# Altium footprint library STM32_F407.PcbLib: 28 footprints (part 1 of 2)
Each footprint in its own frame and in the unit in brackets; x right, y up, seen from the top. Pads: shape width x height; smd on the part's side, far side on the other; paste and mask are expansions set on the pad; w line width, h text height; cw(c..) or ccw(c..) is an arc to the next point about the centre after c.
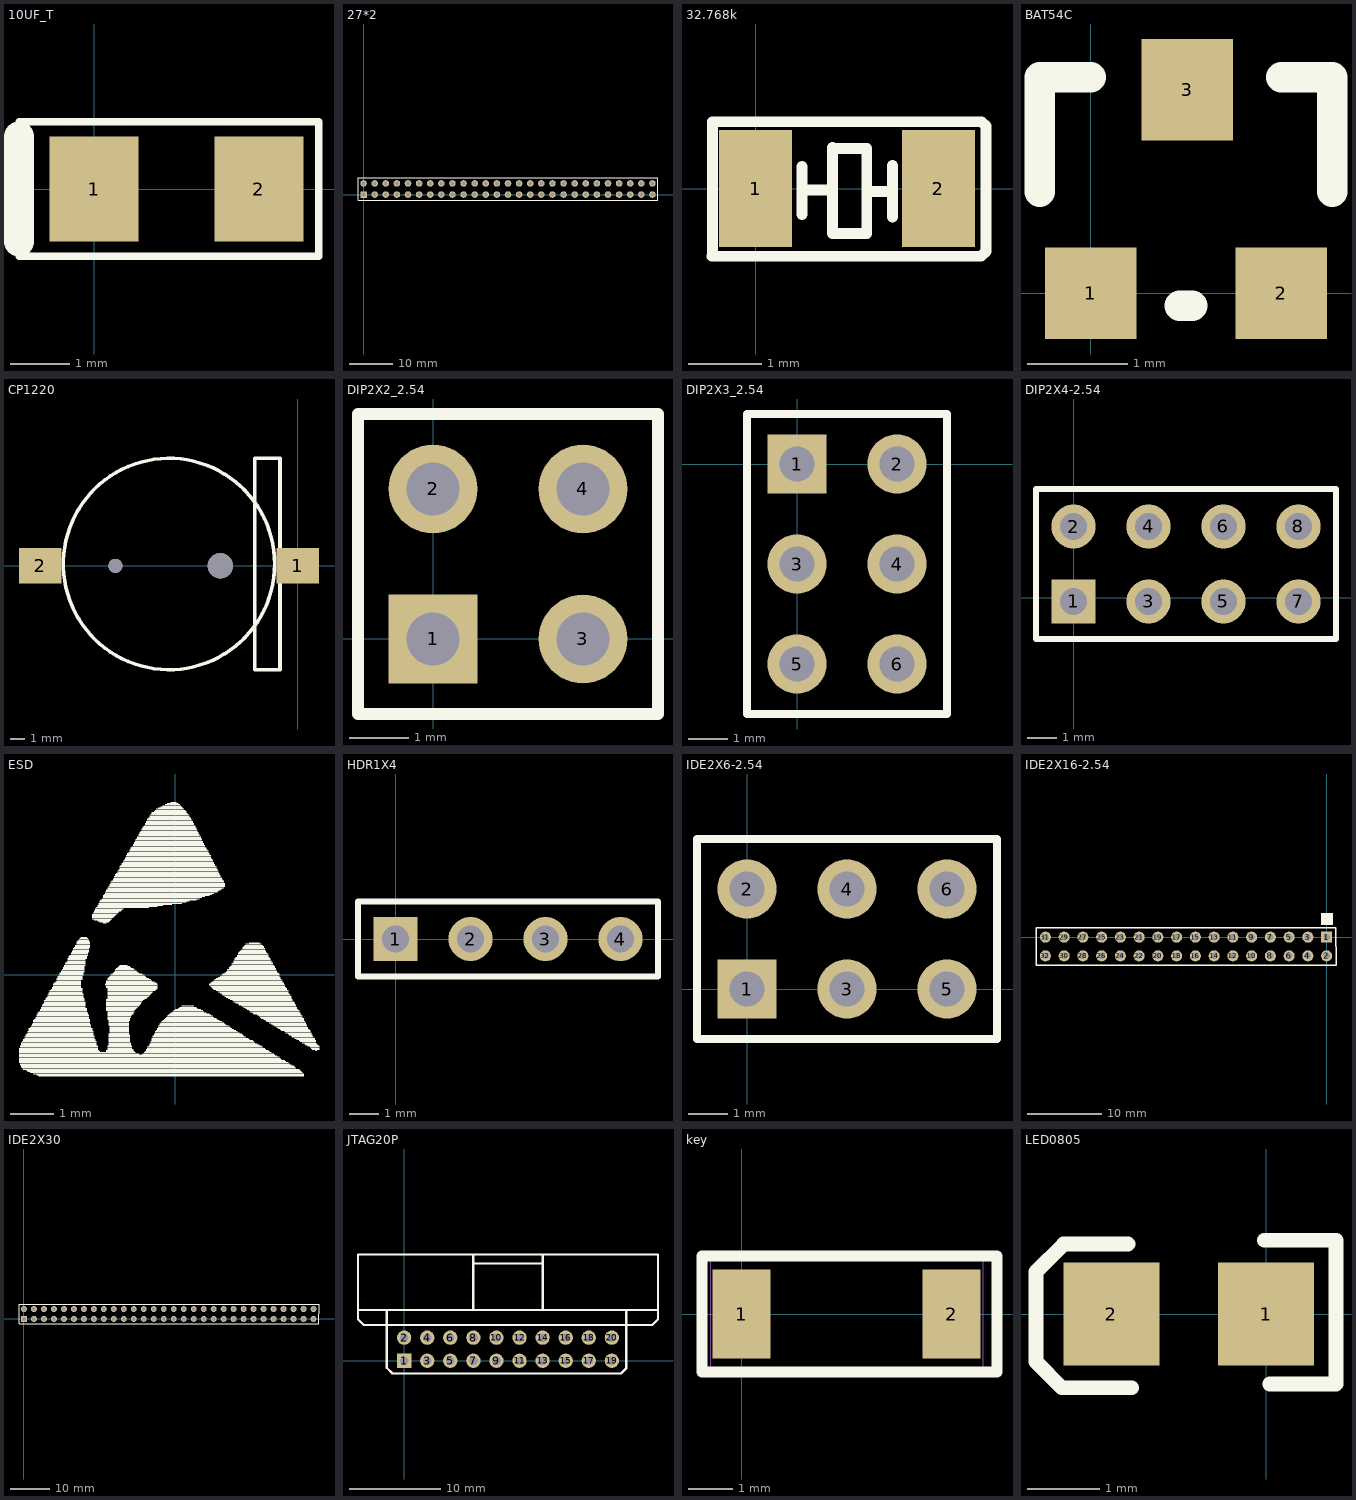
[diagram p0: the footprints below, top view; thin cyan lines are the x and y axes]

## 10UF_T [mil]
height 230.31
pads (2):
  rect 59.06x70 smd: 1(0,0)
  rect 59.05x70 smd: 2(110,0)
Top Overlay:
  lines w5: -50,-45 150,-45 150,45 -50,45
  lines w20: -50,-35 -50,35

## 27*2 [mm]
pads (54):
  rect 1.5x1.5 hole 0.9: 1(0,0)
  round 1.5 hole 0.9: 2(0,2.54) 3(2.54,0) 4(2.54,2.54) 5(5.08,0) 6(5.08,2.54) 7(7.62,0) 8(7.62,2.54) 9(10.16,0) 10(10.16,2.54) 11(12.7,0) 12(12.7,2.54) 13(15.24,0) 14(15.24,2.54) 15(17.78,0) 16(17.78,2.54) 17(20.32,0) 18(20.32,2.54) 19(22.86,0) 20(22.86,2.54) 21(25.4,0) 22(25.4,2.54) 23(27.94,0) 24(27.94,2.54) 25(30.48,0) 26(30.48,2.54) 27(33.02,0) 28(33.02,2.54) 29(35.56,0) 30(35.56,2.54) 31(38.1,0) 32(38.1,2.54) 33(40.64,0) 34(40.64,2.54) 35(43.18,0) 36(43.18,2.54) 37(45.72,0) 38(45.72,2.54) 39(48.26,0) 40(48.26,2.54) 41(50.8,0) 42(50.8,2.54) 43(53.34,0) 44(53.34,2.54) 45(55.88,0) 46(55.88,2.54) 47(58.42,0) 48(58.42,2.54) 49(60.96,0) 50(60.96,2.54) 51(63.5,0) 52(63.5,2.54) 53(66.04,0) 54(66.04,2.54)
Top Overlay:
  lines w0.2: -1.27,-1.27 -1.27,3.81 67.31,3.81 67.31,-1.27 -1.27,-1.27

## 32.768k [mm]
pads (2):
  rect 1x1.6 smd: 1(0,0) 2(2.5,0)
Top Overlay:
  lines w0.15: 0.634,-0.351 0.634,0.305 ; 0.634,-0.016 1.041,-0.016 ; 1.541,-0.037 1.874,-0.037 ; 1.874,-0.388 1.874,0.316 ; -0.596,-0.924 3.082,-0.924 3.147,-0.859 3.147,0.856 3.089,0.914 -0.588,0.914 -0.588,-0.916 -0.596,-0.924 ; 1.052,-0.611 1.052,0.561 1.065,0.548 1.52,0.548 1.52,-0.611 1.052,-0.611

## BAT54C [mil]
height 100
pads (3):
  rect 36x36 smd: 1(0,0) 2(75,0)
  rect 36x40 smd: 3(38,80)
Top Overlay:
  lines w12: -20,40 -20,85 0,85 ; 35,-5 40,-5 ; 75,85 95,85 95,40

## CP1220 [mm]
height 2.54
pads (4):
  rect 3x2.5 smd: 1(0,0) 2(-18.288,0)
  round 1 hole 1: ""(-12.95,0)
  round 1.8 hole 1.8: ""(-5.5,0)
Top Overlay:
  circle w0.254: c-9.144,0.128 r7.5
  lines w0.254: -3.048,-7.366 -1.27,-7.366 -1.27,7.62 -3.048,7.62 -3.048,-7.366

## DIP2X2_2.54 [mm]
pads (4):
  rect 1.5x1.5 hole 0.9: 1(0,0)
  round 1.5 hole 0.9: 2(0,2.54) 3(2.54,0) 4(2.54,2.54)
Top Overlay:
  lines w0.2: -1.27,-1.27 -1.27,3.81 3.81,3.81 3.81,-1.27 -1.27,-1.27

## DIP2X3_2.54 [mm]
pads (6):
  rect 1.5x1.5 hole 0.9: 1(0,0)
  round 1.5 hole 0.9: 2(2.54,0) 3(0,-2.54) 4(2.54,-2.54) 5(0,-5.08) 6(2.54,-5.08)
Top Overlay:
  lines w0.2: -1.27,-1.482 -1.27,-6.35 ; -1.27,-6.35 -1.27,1.27 3.81,1.27 3.81,-6.35 -1.27,-6.35

## DIP2X4-2.54 [mm]
pads (8):
  rect 1.5x1.5 hole 0.9: 1(0,-0.127)
  round 1.5 hole 0.9: 2(0,2.413) 3(2.54,-0.127) 4(2.54,2.413) 5(5.08,-0.127) 6(5.08,2.413) 7(7.62,-0.127) 8(7.62,2.413)
Top Overlay:
  lines w0.2: -1.27,-1.397 8.89,-1.397 8.89,3.683 -1.27,3.683 -1.27,-1.397

## ESD [mm]
Top Overlay:
  drawing of 457 lines, arcs and shapes, not listed

## HDR1X4 [mm] "Connector; Header; 4 Position"
height 2.54
pads (4):
  rect 1.5x1.5 hole 0.9: 1(0,0)
  round 1.5 hole 0.9: 2(2.54,0) 3(5.08,0) 4(7.62,0)
Top Overlay:
  lines w0.2: -1.27,-1.27 -1.27,1.27 8.89,1.27 8.89,-1.27 -1.27,-1.27

## IDE2X6-2.54 [mm]
pads (6):
  rect 1.5x1.5 hole 0.9: 1(0,0)
  round 1.5 hole 0.9: 2(0,2.54) 3(2.54,0) 4(2.54,2.54) 5(5.08,0) 6(5.08,2.54)
Top Overlay:
  lines w0.2: 1.482,-1.27 6.35,-1.27 ; 6.35,-1.27 6.35,3.81 -1.27,3.81 -1.27,-1.27 6.35,-1.27

## IDE2X16-2.54 [mm]
pads (32):
  rect 1.5x1.5 hole 0.9: 1(0,0)
  round 1.5 hole 0.9: 2(0,-2.54) 3(-2.54,0) 4(-2.54,-2.54) 5(-5.08,0) 6(-5.08,-2.54) 7(-7.62,0) 8(-7.62,-2.54) 9(-10.16,0) 10(-10.16,-2.54) 11(-12.7,0) 12(-12.7,-2.54) 13(-15.24,0) 14(-15.24,-2.54) 15(-17.78,0) 16(-17.78,-2.54) 17(-20.32,0) 18(-20.32,-2.54) 19(-22.86,0) 20(-22.86,-2.54) 21(-25.4,0) 22(-25.4,-2.54) 23(-27.94,0) 24(-27.94,-2.54) 25(-30.48,0) 26(-30.48,-2.54) 27(-33.02,0) 28(-33.02,-2.54) 29(-35.56,0) 30(-35.56,-2.54) 31(-38.1,0) 32(-38.1,-2.54)
Top Overlay:
  region: 0.889,3.302 -0.762,3.302 -0.762,1.651 0.889,1.651
  lines w0.2: -39.37,-3.81 1.27,-3.81 1.27,1.27 -39.37,1.27 -39.37,-3.81

## IDE2X30 [mm]
pads (60):
  rect 1.5x1.5 hole 0.9: 1(0,0)
  round 1.5 hole 0.9: 2(0,2.54) 3(2.54,0) 4(2.54,2.54) 5(5.08,0) 6(5.08,2.54) 7(7.62,0) 8(7.62,2.54) 9(10.16,0) 10(10.16,2.54) 11(12.7,0) 12(12.7,2.54) 13(15.24,0) 14(15.24,2.54) 15(17.78,0) 16(17.78,2.54) 17(20.32,0) 18(20.32,2.54) 19(22.86,0) 20(22.86,2.54) 21(25.4,0) 22(25.4,2.54) 23(27.94,0) 24(27.94,2.54) 25(30.48,0) 26(30.48,2.54) 27(33.02,0) 28(33.02,2.54) 29(35.56,0) 30(35.56,2.54) 31(38.1,0) 32(38.1,2.54) 33(40.64,0) 34(40.64,2.54) 35(43.18,0) 36(43.18,2.54) 37(45.72,0) 38(45.72,2.54) 39(48.26,0) 40(48.26,2.54) 41(50.8,0) 42(50.8,2.54) 43(53.34,0) 44(53.34,2.54) 45(55.88,0) 46(55.88,2.54) 47(58.42,0) 48(58.42,2.54) 49(60.96,0) 50(60.96,2.54) 51(63.5,0) 52(63.5,2.54) 53(66.04,0) 54(66.04,2.54) 55(68.58,0) 56(68.58,2.54) 57(71.12,0) 58(71.12,2.54) 59(73.66,0) 60(73.66,2.54)
Top Overlay:
  lines w0.2: -1.27,-1.27 75.06,-1.27 75.06,3.81 -1.27,3.81 -1.27,-1.27

## JTAG20P [mil]
pads (20):
  rect 62x62 hole 38: 1(0,0)
  round 62 hole 38: 2(0,100) 3(100,0) 4(100,100) 5(200,0) 6(200,100) 7(300,0) 8(300,100) 9(400,0) 10(400,100) 11(500,0) 12(500,100) 13(600,0) 14(600,100) 15(700,0) 16(700,100) 17(800,0) 18(800,100) 19(900,0) 20(900,100)
Top Overlay:
  lines w8: -76.12,220 -75,218.88
  lines w10: -75,218.88 -75,-30 -50,-55 940,-55 961.88,-33.12 961.88,220 ; 300,223.4 300,440 ; 300,460 300,421.07 600,421.07 600,460 ; 600,221.58 600,440 ; -200,220 1100,220 ; -200,220 -200,460 1100,460 1100,220 ; -200,220 -200,180 -175,155 -75,155 961.88,155 1075,155 1100,180 1100,220

## key [mm]
pads (2):
  rect 1.3x2 smd paste+0 mask+0.2: 1(0,0) 2(4.7,0)
Top Overlay:
  lines w0.254: -0.888,-1.3 -0.888,1.3 5.716,1.3 5.716,-1.3 -0.888,-1.3
Mechanical 1:
  lines w0.025: -0.695,-1.3 -0.695,1.3 5.405,1.3 5.405,-1.3 -0.695,-1.3
Mechanical 2:
  lines w0.003: -0.695,-1.3 -0.695,1.3 5.405,1.3 5.405,-1.3 -0.695,-1.3

## LED0805 [mil]
height 100
pads (2):
  rect 52x56 smd: 1(0,0) 2(-84,0)
Top Overlay:
  lines w8: -75,38 -110,38 -125,23 -125,-26 -111,-40 -73,-40 ; -1,40 38,40 38,-38 2,-38